# EAGLE library part M20-876P_8X2 (library ben)
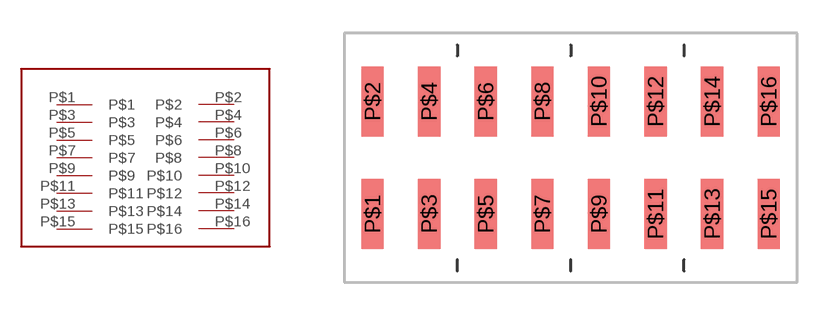
[diagram p1: symbol with the pads of M20-876P_8X2; footprint M20-876P_8X2]

Designator prefix J

## M20-876P_8X2  [M20-876P_8X2]
P$1  P$1
P$2  P$2
P$3  P$3
P$4  P$4
P$5  P$5
P$6  P$6
P$7  P$7
P$8  P$8
P$9  P$9
P$10  P$10
P$11  P$11
P$12  P$12
P$13  P$13
P$14  P$14
P$15  P$15
P$16  P$16

## Footprint M20-876P_8X2 (pad centres in mm)
smd 1 x 3.15: P$1 -8.89,-2.525; P$2 -8.89,2.525; P$3 -6.35,-2.525; P$4 -6.35,2.525; P$5 -3.81,-2.525; P$6 -3.81,2.525; P$7 -1.27,-2.525; P$8 -1.27,2.525; P$9 1.27,-2.525; P$10 1.27,2.525; P$11 3.81,-2.525; P$12 3.81,2.525; P$13 6.35,-2.525; P$14 6.35,2.525; P$15 8.89,-2.525; P$16 8.89,2.525